# Altium footprint library Capacitor_THT.PcbLib: 378 footprints (part 15 of 24)
Each footprint in its own frame and in the unit in brackets; x right, y up, seen from the top. Pads: shape width x height; smd on the part's side, far side on the other; paste and mask are expansions set on the pad; w line width, h text height; cw(c..) or ccw(c..) is an arc to the next point about the centre after c.
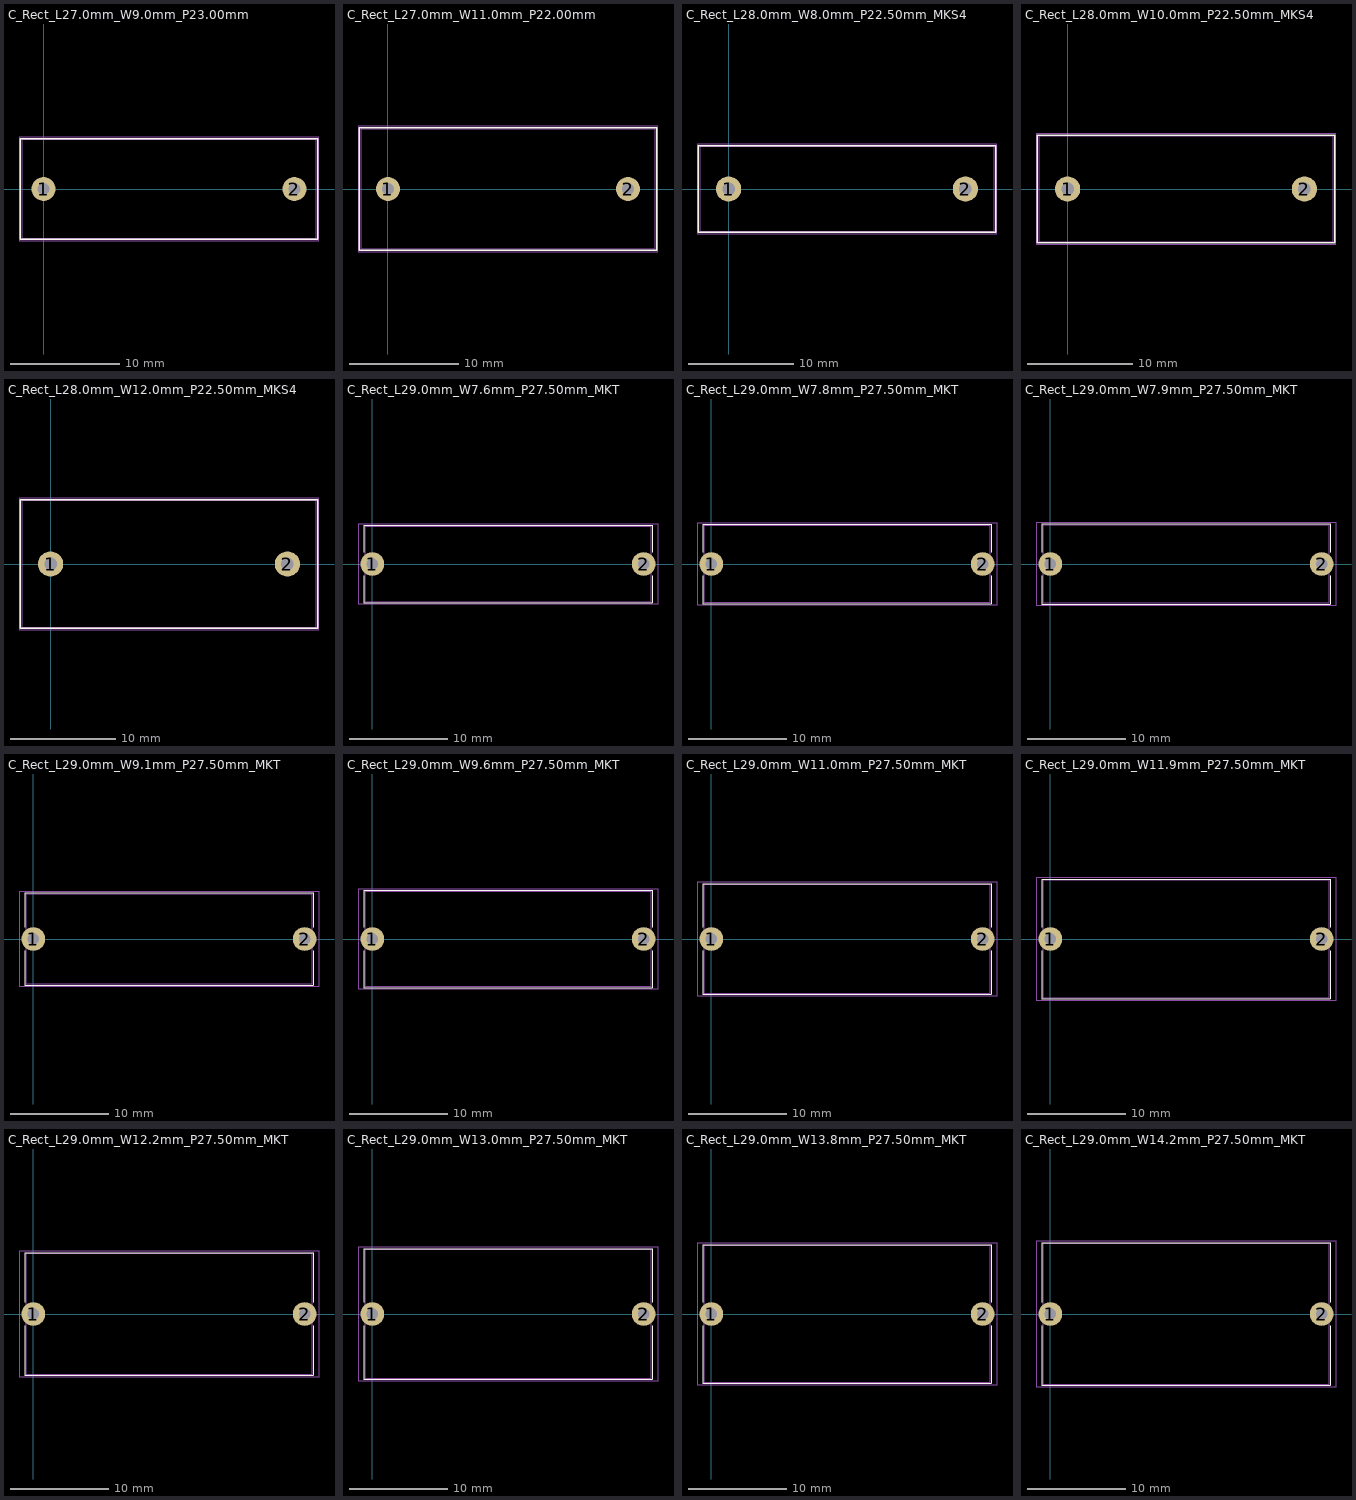
[diagram p14: the footprints below, top view; thin cyan lines are the x and y axes]

## C_Rect_L27.0mm_W9.0mm_P23.00mm [mm]
pads (2):
  round 2.2 hole 1.1: 1(0,0) 2(23,0)
F.SilkS:
  lines w0.12: -2.12,-4.62 -2.12,4.62 25.12,4.62 25.12,-4.62 -2.12,-4.62
F.CrtYd:
  lines w0.05: -2.25,-4.75 25.25,-4.75 25.25,4.75 -2.25,4.75 -2.25,-4.75
F.Fab:
  lines w0.1: -2,-4.5 -2,4.5 25,4.5 25,-4.5 -2,-4.5
  text "'.Designator'" at 7.453,-0.84 h1

## C_Rect_L27.0mm_W11.0mm_P22.00mm [mm]
pads (2):
  round 2.2 hole 1.1: 1(0,0) 2(22,0)
F.SilkS:
  lines w0.12: -2.62,-5.62 -2.62,5.62 24.62,5.62 24.62,-5.62 -2.62,-5.62
F.CrtYd:
  lines w0.05: -2.75,-5.75 -2.75,5.75 24.75,5.75 24.75,-5.75 -2.75,-5.75
F.Fab:
  lines w0.1: -2.5,-5.5 -2.5,5.5 24.5,5.5 24.5,-5.5 -2.5,-5.5
  text "'.Designator'" at 6.953,-0.84 h1

## C_Rect_L28.0mm_W8.0mm_P22.50mm_MKS4 [mm]
pads (2):
  round 2.4 hole 1.2: 1(0,0) 2(22.5,0)
F.SilkS:
  lines w0.12: -2.87,-4.12 -2.87,4.12 25.37,4.12 25.37,-4.12 -2.87,-4.12
F.CrtYd:
  lines w0.05: -3,-4.25 25.5,-4.25 25.5,4.25 -3,4.25 -3,-4.25
F.Fab:
  lines w0.1: -2.75,-4 -2.75,4 25.25,4 25.25,-4 -2.75,-4
  text "'.Designator'" at 7.203,-0.84 h1

## C_Rect_L28.0mm_W10.0mm_P22.50mm_MKS4 [mm]
pads (2):
  round 2.4 hole 1.2: 1(0,0) 2(22.5,0)
F.SilkS:
  lines w0.12: -2.87,-5.12 -2.87,5.12 25.37,5.12 25.37,-5.12 -2.87,-5.12
F.CrtYd:
  lines w0.05: -3,-5.25 -3,5.25 25.5,5.25 25.5,-5.25 -3,-5.25
F.Fab:
  lines w0.1: -2.75,-5 25.25,-5 25.25,5 -2.75,5 -2.75,-5
  text "'.Designator'" at 7.203,-0.84 h1

## C_Rect_L28.0mm_W12.0mm_P22.50mm_MKS4 [mm]
pads (2):
  round 2.4 hole 1.2: 1(0,0) 2(22.5,0)
F.SilkS:
  lines w0.12: -2.87,-6.12 -2.87,6.12 25.37,6.12 25.37,-6.12 -2.87,-6.12
F.CrtYd:
  lines w0.05: -3,-6.25 -3,6.25 25.5,6.25 25.5,-6.25 -3,-6.25
F.Fab:
  lines w0.1: -2.75,-6 -2.75,6 25.25,6 25.25,-6 -2.75,-6
  text "'.Designator'" at 7.203,-0.84 h1

## C_Rect_L29.0mm_W7.6mm_P27.50mm_MKT [mm]
pads (2):
  round 2.4 hole 1.2: 1(0,0) 2(27.5,0)
F.SilkS:
  lines w0.12: -0.87,-1.185 -0.87,-3.92 28.37,-3.92 28.37,-1.185 ; -0.87,1.185 -0.87,3.92 28.37,3.92 28.37,1.185
F.CrtYd:
  lines w0.05: -1.45,-4.05 -1.45,4.05 28.95,4.05 28.95,-4.05 -1.45,-4.05
F.Fab:
  lines w0.1: -0.75,-3.8 28.25,-3.8 28.25,3.8 -0.75,3.8 -0.75,-3.8
  text "'.Designator'" at 9.703,-0.84 h1

## C_Rect_L29.0mm_W7.8mm_P27.50mm_MKT [mm]
pads (2):
  round 2.4 hole 1.2: 1(0,0) 2(27.5,0)
F.SilkS:
  lines w0.12: -0.87,-1.185 -0.87,-4.02 28.37,-4.02 28.37,-1.185 ; -0.87,1.185 -0.87,4.02 28.37,4.02 28.37,1.185
F.CrtYd:
  lines w0.05: -1.45,-4.15 -1.45,4.15 28.95,4.15 28.95,-4.15 -1.45,-4.15
F.Fab:
  lines w0.1: -0.75,-3.9 28.25,-3.9 28.25,3.9 -0.75,3.9 -0.75,-3.9
  text "'.Designator'" at 9.703,-0.84 h1

## C_Rect_L29.0mm_W7.9mm_P27.50mm_MKT [mm]
pads (2):
  round 2.4 hole 1.2: 1(0,0) 2(27.5,0)
F.SilkS:
  lines w0.12: -0.87,-1.185 -0.87,-4.07 28.37,-4.07 28.37,-1.185 ; -0.87,1.185 -0.87,4.07 28.37,4.07 28.37,1.185
F.CrtYd:
  lines w0.05: -1.45,-4.2 -1.45,4.2 28.95,4.2 28.95,-4.2 -1.45,-4.2
F.Fab:
  lines w0.1: -0.75,-3.95 28.25,-3.95 28.25,3.95 -0.75,3.95 -0.75,-3.95
  text "'.Designator'" at 9.703,-0.84 h1

## C_Rect_L29.0mm_W9.1mm_P27.50mm_MKT [mm]
pads (2):
  round 2.4 hole 1.2: 1(0,0) 2(27.5,0)
F.SilkS:
  lines w0.12: -0.87,-1.185 -0.87,-4.67 28.37,-4.67 28.37,-1.185 ; -0.87,1.185 -0.87,4.67 28.37,4.67 28.37,1.185
F.CrtYd:
  lines w0.05: -1.45,-4.8 -1.45,4.8 28.95,4.8 28.95,-4.8 -1.45,-4.8
F.Fab:
  lines w0.1: -0.75,-4.55 28.25,-4.55 28.25,4.55 -0.75,4.55 -0.75,-4.55
  text "'.Designator'" at 9.703,-0.84 h1

## C_Rect_L29.0mm_W9.6mm_P27.50mm_MKT [mm]
pads (2):
  round 2.4 hole 1.2: 1(0,0) 2(27.5,0)
F.SilkS:
  lines w0.12: -0.87,-1.185 -0.87,-4.92 28.37,-4.92 28.37,-1.185 ; -0.87,1.185 -0.87,4.92 28.37,4.92 28.37,1.185
F.CrtYd:
  lines w0.05: -1.45,-5.05 28.95,-5.05 28.95,5.05 -1.45,5.05 -1.45,-5.05
F.Fab:
  lines w0.1: -0.75,-4.8 28.25,-4.8 28.25,4.8 -0.75,4.8 -0.75,-4.8
  text "'.Designator'" at 9.703,-0.84 h1

## C_Rect_L29.0mm_W11.0mm_P27.50mm_MKT [mm]
pads (2):
  round 2.4 hole 1.2: 1(0,0) 2(27.5,0)
F.SilkS:
  lines w0.12: -0.87,-1.185 -0.87,-5.62 28.37,-5.62 28.37,-1.185 ; -0.87,1.185 -0.87,5.62 28.37,5.62 28.37,1.185
F.CrtYd:
  lines w0.05: -1.45,-5.75 28.95,-5.75 28.95,5.75 -1.45,5.75 -1.45,-5.75
F.Fab:
  lines w0.1: -0.75,-5.5 28.25,-5.5 28.25,5.5 -0.75,5.5 -0.75,-5.5
  text "'.Designator'" at 9.703,-0.84 h1

## C_Rect_L29.0mm_W11.9mm_P27.50mm_MKT [mm]
pads (2):
  round 2.4 hole 1.2: 1(0,0) 2(27.5,0)
F.SilkS:
  lines w0.12: -0.87,-1.185 -0.87,-6.07 28.37,-6.07 28.37,-1.185 ; -0.87,1.185 -0.87,6.07 28.37,6.07 28.37,1.185
F.CrtYd:
  lines w0.05: -1.45,-6.2 -1.45,6.2 28.95,6.2 28.95,-6.2 -1.45,-6.2
F.Fab:
  lines w0.1: -0.75,-5.95 28.25,-5.95 28.25,5.95 -0.75,5.95 -0.75,-5.95
  text "'.Designator'" at 9.703,-0.84 h1

## C_Rect_L29.0mm_W12.2mm_P27.50mm_MKT [mm]
pads (2):
  round 2.4 hole 1.2: 1(0,0) 2(27.5,0)
F.SilkS:
  lines w0.12: -0.87,-1.185 -0.87,-6.22 28.37,-6.22 28.37,-1.185 ; -0.87,1.185 -0.87,6.22 28.37,6.22 28.37,1.185
F.CrtYd:
  lines w0.05: -1.45,-6.35 28.95,-6.35 28.95,6.35 -1.45,6.35 -1.45,-6.35
F.Fab:
  lines w0.1: -0.75,-6.1 -0.75,6.1 28.25,6.1 28.25,-6.1 -0.75,-6.1
  text "'.Designator'" at 9.703,-0.84 h1

## C_Rect_L29.0mm_W13.0mm_P27.50mm_MKT [mm]
pads (2):
  round 2.4 hole 1.2: 1(0,0) 2(27.5,0)
F.SilkS:
  lines w0.12: -0.87,-1.185 -0.87,-6.62 28.37,-6.62 28.37,-1.185 ; -0.87,1.185 -0.87,6.62 28.37,6.62 28.37,1.185
F.CrtYd:
  lines w0.05: -1.45,-6.75 28.95,-6.75 28.95,6.75 -1.45,6.75 -1.45,-6.75
F.Fab:
  lines w0.1: -0.75,-6.5 -0.75,6.5 28.25,6.5 28.25,-6.5 -0.75,-6.5
  text "'.Designator'" at 9.703,-0.84 h1

## C_Rect_L29.0mm_W13.8mm_P27.50mm_MKT [mm]
pads (2):
  round 2.4 hole 1.2: 1(0,0) 2(27.5,0)
F.SilkS:
  lines w0.12: -0.87,-1.185 -0.87,-7.02 28.37,-7.02 28.37,-1.185 ; -0.87,1.185 -0.87,7.02 28.37,7.02 28.37,1.185
F.CrtYd:
  lines w0.05: -1.45,-7.15 28.95,-7.15 28.95,7.15 -1.45,7.15 -1.45,-7.15
F.Fab:
  lines w0.1: -0.75,-6.9 28.25,-6.9 28.25,6.9 -0.75,6.9 -0.75,-6.9
  text "'.Designator'" at 9.703,-0.84 h1

## C_Rect_L29.0mm_W14.2mm_P27.50mm_MKT [mm]
pads (2):
  round 2.4 hole 1.2: 1(0,0) 2(27.5,0)
F.SilkS:
  lines w0.12: -0.87,-1.185 -0.87,-7.22 28.37,-7.22 28.37,-1.185 ; -0.87,1.185 -0.87,7.22 28.37,7.22 28.37,1.185
F.CrtYd:
  lines w0.05: -1.45,-7.35 28.95,-7.35 28.95,7.35 -1.45,7.35 -1.45,-7.35
F.Fab:
  lines w0.1: -0.75,-7.1 28.25,-7.1 28.25,7.1 -0.75,7.1 -0.75,-7.1
  text "'.Designator'" at 9.703,-0.84 h1